# EAGLE library part MC14042BCP (library User-Submitted)
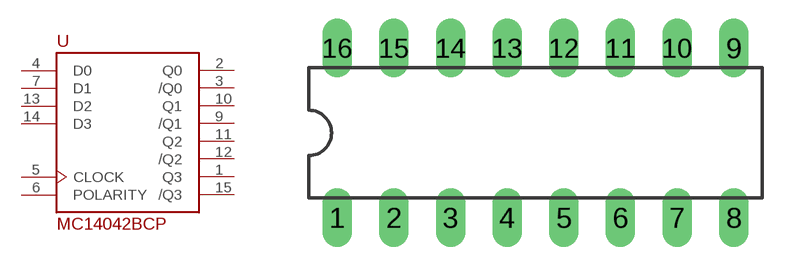
[diagram p22: symbol with the pads of DIL16; footprint DIL16]

Designator prefix -

## MC14042BCP  [DIL16]
1  Q3
2  Q0
3  /Q0
4  D0
5  CLOCK
6  POLARITY
7  D1
9  /Q1
10  Q1
11  Q2
12  /Q2
13  D2
14  D3
15  /Q3

## Footprint DIL16 (pad centres in mm)
Dual In Line Package
drill 0.813 long: 1 -8.89,-3.81; 2 -6.35,-3.81; 3 -3.81,-3.81; 4 -1.27,-3.81; 5 1.27,-3.81; 6 3.81,-3.81; 7 6.35,-3.81; 8 8.89,-3.81; 9 8.89,3.81; 10 6.35,3.81; 11 3.81,3.81; 12 1.27,3.81; 13 -1.27,3.81; 14 -3.81,3.81; 15 -6.35,3.81; 16 -8.89,3.81